# EAGLE library part CD4016BC (library UPRA_misc)
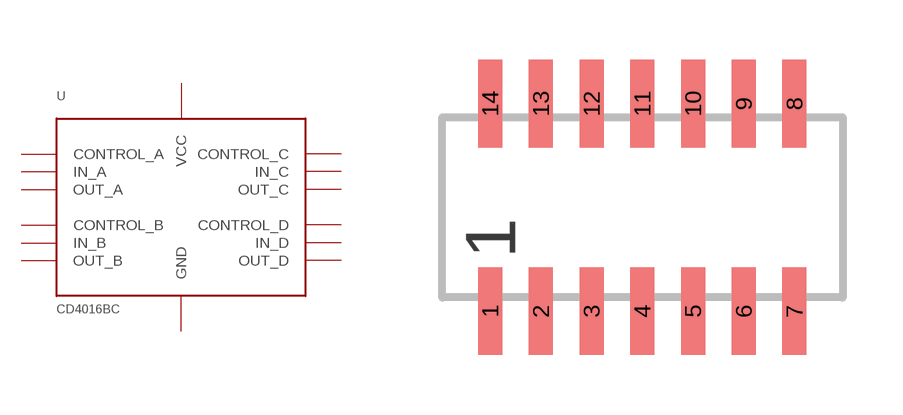
[diagram p2: symbol with the pads of SOP14; footprint SOP14]

Designator prefix U

## CD4016BCM  [SOP14]
1  IN_A
2  OUT_A
3  OUT_B
4  IN_B
5  CONTROL_B
6  CONTROL_C
7  GND
8  IN_C
9  OUT_C
10  OUT_D
11  IN_D
12  CONTROL_D
13  CONTROL_A
14  VCC

## Footprint SOP14 (pad centres in mm)
SMALL OUTLINE PACKAGE
smd 0.6 x 2.2: 1 -3.81,-2.6; 2 -2.54,-2.6; 3 -1.27,-2.6; 4 0,-2.6; 5 1.27,-2.6; 6 2.54,-2.6; 7 3.81,-2.6; 8 3.81,2.6; 9 2.54,2.6; 10 1.27,2.6; 11 0,2.6; 12 -1.27,2.6; 13 -2.54,2.6; 14 -3.81,2.6